# Altium schematic symbol library Taiyo Yuden.SchLib: 1 symbol
Pins are listed as number, name and electrical type; pins without a type are passive.

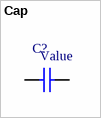
[diagram p0: symbol Cap]

## Cap
designator C?  (value not drawn)
Value: Value
pins: 1, 2